# EAGLE library part 7499010121A (library Modular Jacks)
CONN MAGJACK 1PORT 100 BASE-T Manufacturer's datasheet <https://www.we-online.de/katalog/datasheet/7499010121A.pdf>
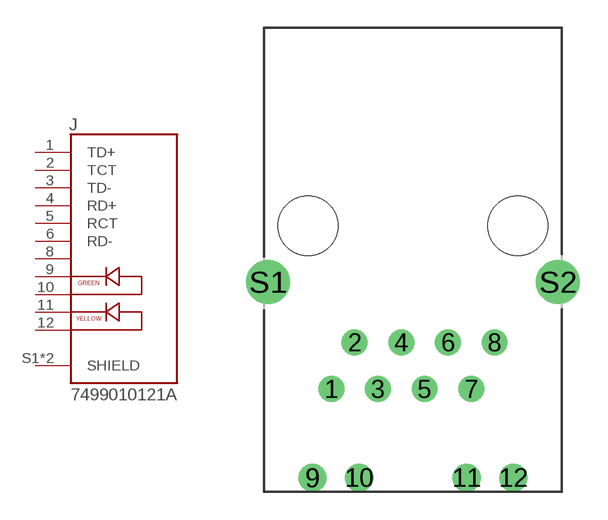
[diagram p2: symbol with the pads of 7499010121A; footprint 7499010121A]

Designator prefix J

## 7499010121A (CREATED_BY: PCBLayout.com; DIGIKEY_PARTNO: 732-1650-ND; MANUFACTURER: Würth Elektronik; MPN: 7499010121A)  [7499010121A]
1  TD+  pas
2  TCT  hiz
3  TD-  pas
4  RD+  pas
5  RCT  pas
6  RD-  pas
8  8  pas
9  GREEN-  pas
10  GREEN+  pas
11  YELLOW-  pas
12  YELLOW+  pas
S1  SHIELD  pwr
S2  SHIELD  pwr

## Footprint 7499010121A (pad centres in mm)
drill 0.9: 1 -4.445,-8.89; 2 -3.175,-6.35; 3 -1.905,-8.89; 4 -0.635,-6.35; 5 0.635,-8.89; 6 1.905,-6.35; 7 3.175,-8.89; 8 4.445,-6.35
drill 1.02: 9 -5.465,-13.72; 10 -2.925,-13.72; 11 2.925,-13.72; 12 5.465,-13.72
drill 1.6: S1 -7.9,-3.05; S2 7.9,-3.05
hole 3.25 at -5.715,0
hole 3.25 at 5.715,0